# EAGLE library part 10/100BASE (library lbm)
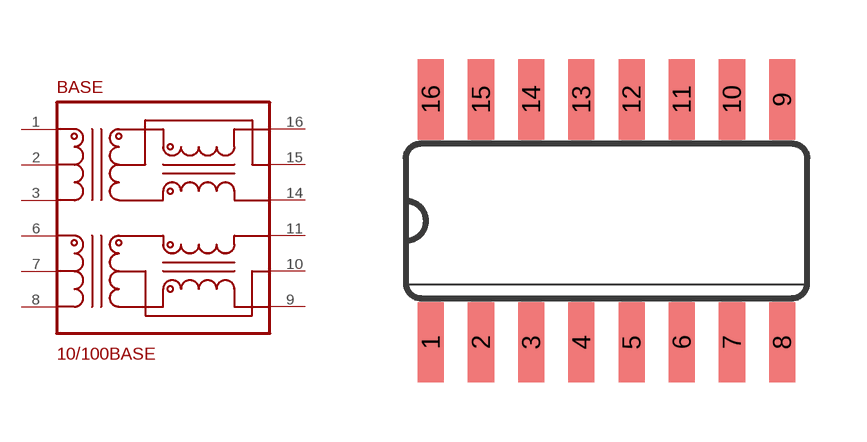
[diagram p36: symbol with the pads of SO16; footprint SO16]

Designator prefix BASE

## 10/100BASE  [SO16]
1  P$1
2  P$2
3  P$3
6  P$6
7  P$7
8  P$8
9  P$9
10  P$10
11  P$11
14  P$14
15  P$15
16  P$16

## Footprint SO16 (pad centres in mm)
smd 0.66 x 2.032: 1 -4.445,-3.073; 2 -3.175,-3.073; 3 -1.905,-3.073; 4 -0.635,-3.073; 5 0.635,-3.073; 6 1.905,-3.073; 7 3.175,-3.073; 8 4.445,-3.073; 9 4.445,3.073; 10 3.175,3.073; 11 1.905,3.073; 12 0.635,3.073; 13 -0.635,3.073; 14 -1.905,3.073; 15 -3.175,3.073; 16 -4.445,3.073